# Altium integrated library NSC Switcher.IntLib: 2027 symbols (part 52 of 54)
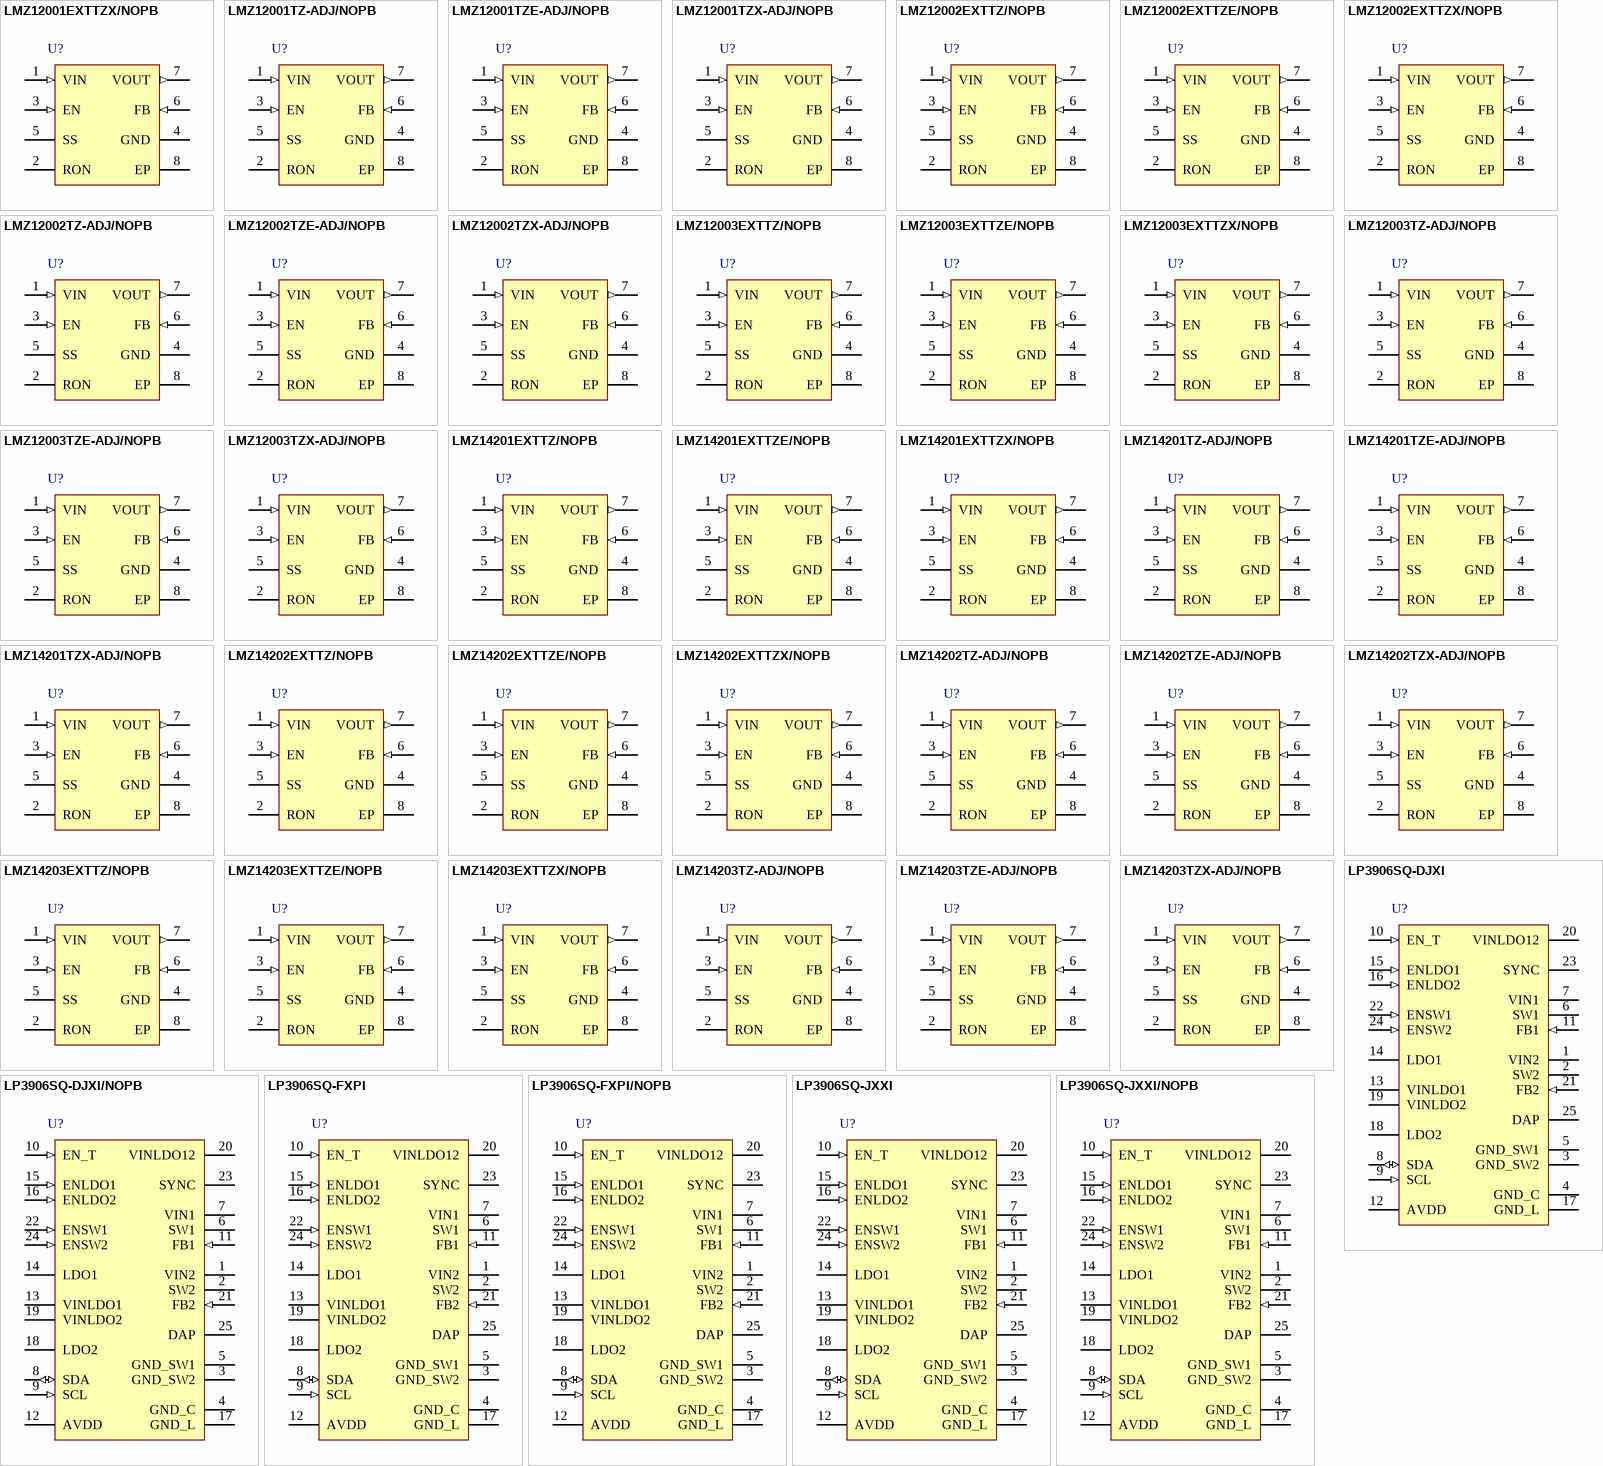
[diagram p114: symbols LMZ12001EXTTZX/NOPB to LP3906SQ-JXXI/NOPB]

## LP3906SQ-DJXI/NOPB
designator U?
Dual High-Current Step-Down DC/DC and Dual Linear Regulator with I2C Compatible Interface, 24-pin LLP, Pb-Free; PartNumber: LP3906SQ-DJXI/NOPB; Manufacturer: National Semiconductor; PackageTopMarking: NS*UZXYTT*06-DJXI; PowerWise: Y; CompType: Switcher; Published: 1-Mar-2010; DatasheetVersion: Aug-2010; PackageVersion: revA, Oct-2003; PackageReference: SQA24B; Publisher: Altium Limited; PackageDescription: LLP, Plastic, Quad, 5 x 4 x 0.8mm Body, 24 Lead, 0.5mm Pitch, No Pullback; Supplier 1: Digi-Key; Supplier Part Number 1: LP3906SQ-DJXITR-ND; Supplier 2: Digi-Key; Supplier Part Number 2: LP3906SQ-DJXICT-ND; Supplier 3: Digi-Key; Supplier Part Number 3: LP3906SQ-DJXIDKR-ND; RoHS: Y; PinCount: 24; Code_JEDEC: MO-220-WGHD-1; ComponentLink1Description: LP3906 Datasheet; ComponentLink1URL: http://www.national.com/ds/LP/LP3906.pdf; ComponentLink2Description: LP3906 Web Page; ComponentLink2URL: http://www.national.com/pf/LP/LP3906.html; ComponentLink3Description: SQA24B Package Page; ComponentLink3URL: http://www.national.com/packaging/folders/sqa24b.html
footprint SQA24B (QFN, 24-Leads, Body 5x4mm, Pitch 0.5mm, NSC Recommended)
pins: 1 VIN2 (power), 2 SW2 (power), 3 GND_SW2 (power), 4 GND_C (power), 5 GND_SW1 (power), 6 SW1 (power), 7 VIN1 (power), 8 SDA (io), 9 SCL (in), 10 EN_T (in), 11 FB1 (in), 12 AVDD (power), 13 VINLDO1 (power), 14 LDO1 (power), 15 ENLDO1 (in), 16 ENLDO2 (in), 17 GND_L (power), 18 LDO2 (power), 19 VINLDO2 (power), 20 VINLDO12 (power), 21 FB2 (in), 22 ENSW1 (in), 23 SYNC, 24 ENSW2 (in), 25 DAP (power)

## LP3906SQ-FXPI
designator U?
Dual High-Current Step-Down DC/DC and Dual Linear Regulator with I2C Compatible Interface, 24-pin LLP; PartNumber: LP3906SQ-FXPI; Manufacturer: National Semiconductor; PackageTopMarking: NS*UZXYTT*06-FXPI; PowerWise: N; CompType: Switcher; Published: 9-Oct-2009; DatasheetVersion: Aug-2010; PackageVersion: revA, Oct-2003; PackageReference: SQA24B; Publisher: Altium Limited; PackageDescription: LLP, Plastic, Quad, 5 x 4 x 0.8mm Body, 24 Lead, 0.5mm Pitch, No Pullback; RoHS: Y; PinCount: 24; Code_JEDEC: MO-220-WGHD-1; ComponentLink1Description: LP3906 Datasheet; ComponentLink1URL: http://www.national.com/ds/LP/LP3906.pdf; ComponentLink2Description: LP3906 Web Page; ComponentLink2URL: http://www.national.com/pf/LP/LP3906.html; ComponentLink3Description: SQA24B Package Page; ComponentLink3URL: http://www.national.com/packaging/folders/sqa24b.html
footprint SQA24B (QFN, 24-Leads, Body 5x4mm, Pitch 0.5mm, NSC Recommended)
pins: 1 VIN2 (power), 2 SW2 (power), 3 GND_SW2 (power), 4 GND_C (power), 5 GND_SW1 (power), 6 SW1 (power), 7 VIN1 (power), 8 SDA (io), 9 SCL (in), 10 EN_T (in), 11 FB1 (in), 12 AVDD (power), 13 VINLDO1 (power), 14 LDO1 (power), 15 ENLDO1 (in), 16 ENLDO2 (in), 17 GND_L (power), 18 LDO2 (power), 19 VINLDO2 (power), 20 VINLDO12 (power), 21 FB2 (in), 22 ENSW1 (in), 23 SYNC, 24 ENSW2 (in), 25 DAP (power)

## LP3906SQ-FXPI/NOPB
designator U?
Dual High-Current Step-Down DC/DC and Dual Linear Regulator with I2C Compatible Interface, 24-pin LLP, Pb-Free; PartNumber: LP3906SQ-FXPI/NOPB; Manufacturer: National Semiconductor; PackageTopMarking: NS*UZXYTT*06-FXPI; PowerWise: N; CompType: Switcher; Published: 1-Mar-2010; DatasheetVersion: Aug-2010; PackageVersion: revA, Oct-2003; PackageReference: SQA24B; Publisher: Altium Limited; PackageDescription: LLP, Plastic, Quad, 5 x 4 x 0.8mm Body, 24 Lead, 0.5mm Pitch, No Pullback; RoHS: Y; PinCount: 24; Code_JEDEC: MO-220-WGHD-1; ComponentLink1Description: LP3906 Datasheet; ComponentLink1URL: http://www.national.com/ds/LP/LP3906.pdf; ComponentLink2Description: LP3906 Web Page; ComponentLink2URL: http://www.national.com/pf/LP/LP3906.html; ComponentLink3Description: SQA24B Package Page; ComponentLink3URL: http://www.national.com/packaging/folders/sqa24b.html
footprint SQA24B (QFN, 24-Leads, Body 5x4mm, Pitch 0.5mm, NSC Recommended)
pins: 1 VIN2 (power), 2 SW2 (power), 3 GND_SW2 (power), 4 GND_C (power), 5 GND_SW1 (power), 6 SW1 (power), 7 VIN1 (power), 8 SDA (io), 9 SCL (in), 10 EN_T (in), 11 FB1 (in), 12 AVDD (power), 13 VINLDO1 (power), 14 LDO1 (power), 15 ENLDO1 (in), 16 ENLDO2 (in), 17 GND_L (power), 18 LDO2 (power), 19 VINLDO2 (power), 20 VINLDO12 (power), 21 FB2 (in), 22 ENSW1 (in), 23 SYNC, 24 ENSW2 (in), 25 DAP (power)

## LP3906SQ-JXXI
designator U?
Dual High-Current Step-Down DC/DC and Dual Linear Regulator with I2C Compatible Interface, 24-pin LLP; PartNumber: LP3906SQ-JXXI; Manufacturer: National Semiconductor; PackageTopMarking: NS*UZXYTT*06-JXXI; PowerWise: Y; CompType: Switcher; Published: 4-Dec-2008; DatasheetVersion: Aug-2010; PackageVersion: revA, Oct-2003; PackageReference: SQA24B; Publisher: Altium Limited; PackageDescription: LLP, Plastic, Quad, 5 x 4 x 0.8mm Body, 24 Lead, 0.5mm Pitch, No Pullback; RoHS: Y; PinCount: 24; Code_JEDEC: MO-220-WGHD-1; ComponentLink1Description: LP3906 Datasheet; ComponentLink1URL: http://www.national.com/ds/LP/LP3906.pdf; ComponentLink2Description: LP3906 Web Page; ComponentLink2URL: http://www.national.com/pf/LP/LP3906.html; ComponentLink3Description: SQA24B Package Page; ComponentLink3URL: http://www.national.com/packaging/folders/sqa24b.html
footprint SQA24B (QFN, 24-Leads, Body 5x4mm, Pitch 0.5mm, NSC Recommended)
pins: 1 VIN2 (power), 2 SW2 (power), 3 GND_SW2 (power), 4 GND_C (power), 5 GND_SW1 (power), 6 SW1 (power), 7 VIN1 (power), 8 SDA (io), 9 SCL (in), 10 EN_T (in), 11 FB1 (in), 12 AVDD (power), 13 VINLDO1 (power), 14 LDO1 (power), 15 ENLDO1 (in), 16 ENLDO2 (in), 17 GND_L (power), 18 LDO2 (power), 19 VINLDO2 (power), 20 VINLDO12 (power), 21 FB2 (in), 22 ENSW1 (in), 23 SYNC, 24 ENSW2 (in), 25 DAP (power)

## LP3906SQ-JXXI/NOPB
designator U?
Dual High-Current Step-Down DC/DC and Dual Linear Regulator with I2C Compatible Interface, 24-pin LLP, Pb-Free; PartNumber: LP3906SQ-JXXI/NOPB; Manufacturer: National Semiconductor; PackageTopMarking: NS*UZXYTT*06-JXXI; PowerWise: Y; CompType: Switcher; Published: 1-Mar-2010; DatasheetVersion: Aug-2010; PackageVersion: revA, Oct-2003; PackageReference: SQA24B; Publisher: Altium Limited; PackageDescription: LLP, Plastic, Quad, 5 x 4 x 0.8mm Body, 24 Lead, 0.5mm Pitch, No Pullback; Supplier 1: Digi-Key; Supplier Part Number 1: LP3906SQ-JXXITR-ND; Supplier 2: Digi-Key; Supplier Part Number 2: LP3906SQ-JXXICT-ND; Supplier 3: Digi-Key; Supplier Part Number 3: LP3906SQ-JXXIDKR-ND; RoHS: Y; PinCount: 24; Code_JEDEC: MO-220-WGHD-1; ComponentLink1Description: LP3906 Datasheet; ComponentLink1URL: http://www.national.com/ds/LP/LP3906.pdf; ComponentLink2Description: LP3906 Web Page; ComponentLink2URL: http://www.national.com/pf/LP/LP3906.html; ComponentLink3Description: SQA24B Package Page; ComponentLink3URL: http://www.national.com/packaging/folders/sqa24b.html
footprint SQA24B (QFN, 24-Leads, Body 5x4mm, Pitch 0.5mm, NSC Recommended)
pins: 1 VIN2 (power), 2 SW2 (power), 3 GND_SW2 (power), 4 GND_C (power), 5 GND_SW1 (power), 6 SW1 (power), 7 VIN1 (power), 8 SDA (io), 9 SCL (in), 10 EN_T (in), 11 FB1 (in), 12 AVDD (power), 13 VINLDO1 (power), 14 LDO1 (power), 15 ENLDO1 (in), 16 ENLDO2 (in), 17 GND_L (power), 18 LDO2 (power), 19 VINLDO2 (power), 20 VINLDO12 (power), 21 FB2 (in), 22 ENSW1 (in), 23 SYNC, 24 ENSW2 (in), 25 DAP (power)

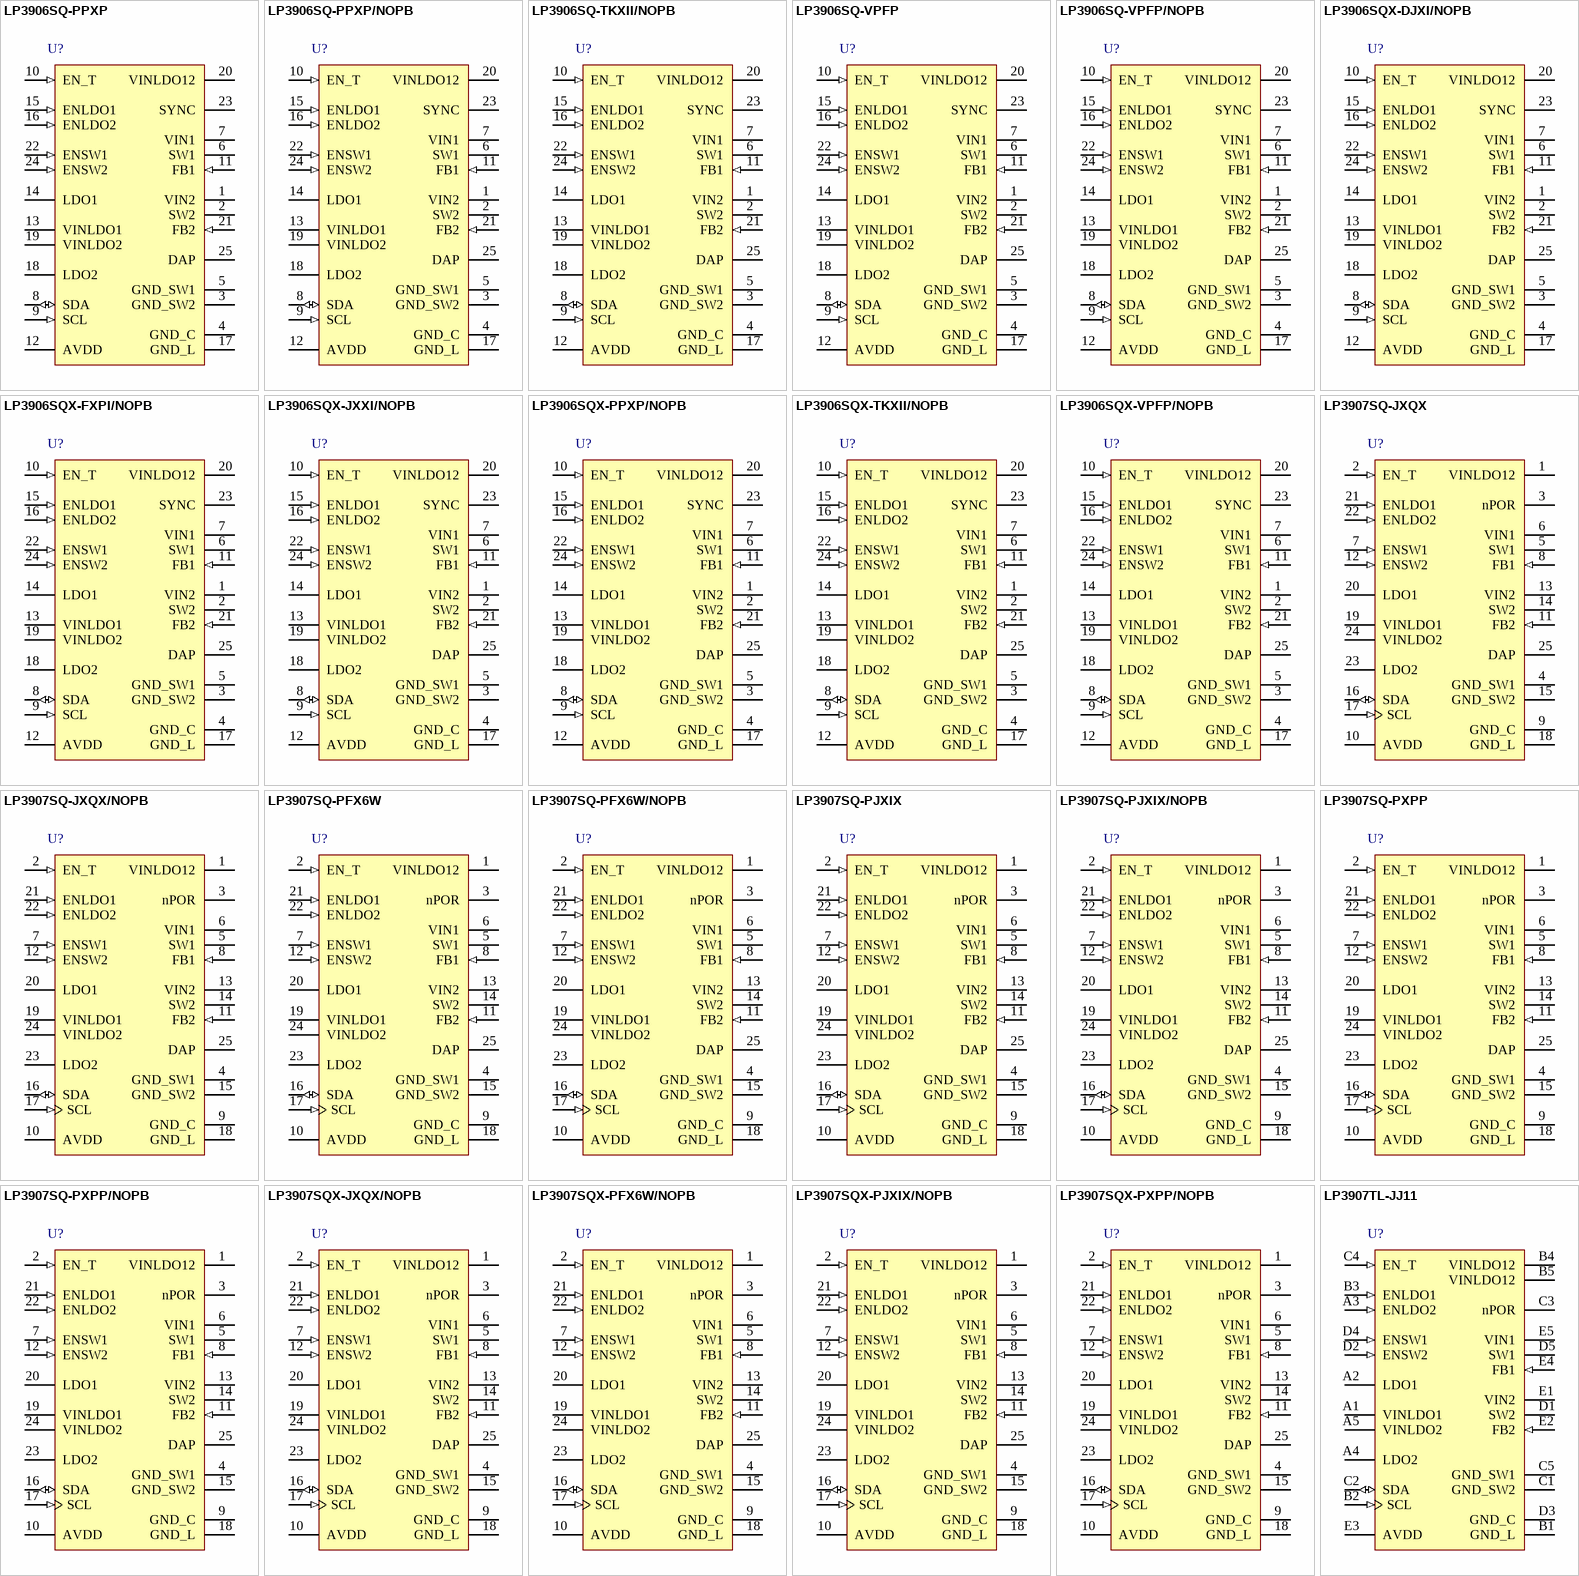
[diagram p59: symbols LP3906SQ-PPXP to LP3907TL-JJ11]

## LP3906SQ-PPXP
designator U?
Dual High-Current Step-Down DC/DC and Dual Linear Regulator with I2C Compatible Interface, 24-pin LLP; PartNumber: LP3906SQ-PPXP; Manufacturer: National Semiconductor; PackageTopMarking: NS*UZXYTT*06-PPXP; PowerWise: Y; CompType: Switcher; Published: 4-Dec-2008; DatasheetVersion: Aug-2010; PackageVersion: revA, Oct-2003; PackageReference: SQA24B; Publisher: Altium Limited; PackageDescription: LLP, Plastic, Quad, 5 x 4 x 0.8mm Body, 24 Lead, 0.5mm Pitch, No Pullback; RoHS: Y; PinCount: 24; Code_JEDEC: MO-220-WGHD-1; ComponentLink1Description: LP3906 Datasheet; ComponentLink1URL: http://www.national.com/ds/LP/LP3906.pdf; ComponentLink2Description: LP3906 Web Page; ComponentLink2URL: http://www.national.com/pf/LP/LP3906.html; ComponentLink3Description: SQA24B Package Page; ComponentLink3URL: http://www.national.com/packaging/folders/sqa24b.html
footprint SQA24B (QFN, 24-Leads, Body 5x4mm, Pitch 0.5mm, NSC Recommended)
pins: 1 VIN2 (power), 2 SW2 (power), 3 GND_SW2 (power), 4 GND_C (power), 5 GND_SW1 (power), 6 SW1 (power), 7 VIN1 (power), 8 SDA (io), 9 SCL (in), 10 EN_T (in), 11 FB1 (in), 12 AVDD (power), 13 VINLDO1 (power), 14 LDO1 (power), 15 ENLDO1 (in), 16 ENLDO2 (in), 17 GND_L (power), 18 LDO2 (power), 19 VINLDO2 (power), 20 VINLDO12 (power), 21 FB2 (in), 22 ENSW1 (in), 23 SYNC, 24 ENSW2 (in), 25 DAP (power)

## LP3906SQ-PPXP/NOPB
designator U?
Dual High-Current Step-Down DC/DC and Dual Linear Regulator with I2C Compatible Interface, 24-pin LLP, Pb-Free; PartNumber: LP3906SQ-PPXP/NOPB; Manufacturer: National Semiconductor; PackageTopMarking: NS*UZXYTT*06-PPXP; PowerWise: Y; CompType: Switcher; Published: 1-Mar-2010; DatasheetVersion: Aug-2010; PackageVersion: revA, Oct-2003; PackageReference: SQA24B; Publisher: Altium Limited; PackageDescription: LLP, Plastic, Quad, 5 x 4 x 0.8mm Body, 24 Lead, 0.5mm Pitch, No Pullback; Supplier 1: Digi-Key; Supplier Part Number 1: LP3906SQ-PPXPTR-ND; Supplier 2: Digi-Key; Supplier Part Number 2: LP3906SQ-PPXPCT-ND; Supplier 3: Digi-Key; Supplier Part Number 3: LP3906SQ-PPXPDKR-ND; RoHS: Y; PinCount: 24; Code_JEDEC: MO-220-WGHD-1; ComponentLink1Description: LP3906 Datasheet; ComponentLink1URL: http://www.national.com/ds/LP/LP3906.pdf; ComponentLink2Description: LP3906 Web Page; ComponentLink2URL: http://www.national.com/pf/LP/LP3906.html; ComponentLink3Description: SQA24B Package Page; ComponentLink3URL: http://www.national.com/packaging/folders/sqa24b.html
footprint SQA24B (QFN, 24-Leads, Body 5x4mm, Pitch 0.5mm, NSC Recommended)
pins: 1 VIN2 (power), 2 SW2 (power), 3 GND_SW2 (power), 4 GND_C (power), 5 GND_SW1 (power), 6 SW1 (power), 7 VIN1 (power), 8 SDA (io), 9 SCL (in), 10 EN_T (in), 11 FB1 (in), 12 AVDD (power), 13 VINLDO1 (power), 14 LDO1 (power), 15 ENLDO1 (in), 16 ENLDO2 (in), 17 GND_L (power), 18 LDO2 (power), 19 VINLDO2 (power), 20 VINLDO12 (power), 21 FB2 (in), 22 ENSW1 (in), 23 SYNC, 24 ENSW2 (in), 25 DAP (power)

## LP3906SQ-TKXII/NOPB
designator U?
Dual High-Current Step-Down DC/DC and Dual Linear Regulator with I2C Compatible Interface, 24 pin LLP; PartNumber: LP3906SQ-TKXII/NOPB; Manufacturer: National Semiconductor; PackageTopMarking: NS*UZXYTT*06TKXII; PowerWise: N; CompType: Switcher; Published: 16-Nov-2010; DatasheetVersion: Aug-2010; PackageVersion: revA, Oct-2003; PackageReference: SQA24B; Publisher: Altium Limited; PackageDescription: LLP, Plastic, Quad, 5 x 4 x 0.8mm Body, 24 Lead, 0.5mm Pitch, No Pullback; RoHS: Y; PinCount: 24; Code_JEDEC: MO-220-WGHD-1; ComponentLink1Description: LP3906 Datasheet; ComponentLink1URL: http://www.national.com/ds/LP/LP3906.pdf; ComponentLink2Description: LP3906 Web Page; ComponentLink2URL: http://www.national.com/pf/LP/LP3906.html; ComponentLink3Description: SQA24B Package Page; ComponentLink3URL: http://www.national.com/packaging/folders/sqa24b.html
footprint SQA24B (QFN, 24-Leads, Body 5x4mm, Pitch 0.5mm, NSC Recommended)
pins: 1 VIN2 (power), 2 SW2 (power), 3 GND_SW2 (power), 4 GND_C (power), 5 GND_SW1 (power), 6 SW1 (power), 7 VIN1 (power), 8 SDA (io), 9 SCL (in), 10 EN_T (in), 11 FB1 (in), 12 AVDD (power), 13 VINLDO1 (power), 14 LDO1 (power), 15 ENLDO1 (in), 16 ENLDO2 (in), 17 GND_L (power), 18 LDO2 (power), 19 VINLDO2 (power), 20 VINLDO12 (power), 21 FB2 (in), 22 ENSW1 (in), 23 SYNC, 24 ENSW2 (in), 25 DAP (power)

## LP3906SQ-VPFP
designator U?
Dual High-Current Step-Down DC/DC and Dual Linear Regulator with I2C Compatible Interface, 24-pin LLP; PartNumber: LP3906SQ-VPFP; Manufacturer: National Semiconductor; PackageTopMarking: NS*UZXYTT*06-VPFP; PowerWise: Y; CompType: Switcher; Published: 4-Dec-2008; DatasheetVersion: Aug-2010; PackageVersion: revA, Oct-2003; PackageReference: SQA24B; Publisher: Altium Limited; PackageDescription: LLP, Plastic, Quad, 5 x 4 x 0.8mm Body, 24 Lead, 0.5mm Pitch, No Pullback; RoHS: Y; PinCount: 24; Code_JEDEC: MO-220-WGHD-1; ComponentLink1Description: LP3906 Datasheet; ComponentLink1URL: http://www.national.com/ds/LP/LP3906.pdf; ComponentLink2Description: LP3906 Web Page; ComponentLink2URL: http://www.national.com/pf/LP/LP3906.html; ComponentLink3Description: SQA24B Package Page; ComponentLink3URL: http://www.national.com/packaging/folders/sqa24b.html
footprint SQA24B (QFN, 24-Leads, Body 5x4mm, Pitch 0.5mm, NSC Recommended)
pins: 1 VIN2 (power), 2 SW2 (power), 3 GND_SW2 (power), 4 GND_C (power), 5 GND_SW1 (power), 6 SW1 (power), 7 VIN1 (power), 8 SDA (io), 9 SCL (in), 10 EN_T (in), 11 FB1 (in), 12 AVDD (power), 13 VINLDO1 (power), 14 LDO1 (power), 15 ENLDO1 (in), 16 ENLDO2 (in), 17 GND_L (power), 18 LDO2 (power), 19 VINLDO2 (power), 20 VINLDO12 (power), 21 FB2 (in), 22 ENSW1 (in), 23 SYNC, 24 ENSW2 (in), 25 DAP (power)

## LP3906SQ-VPFP/NOPB
designator U?
Dual High-Current Step-Down DC/DC and Dual Linear Regulator with I2C Compatible Interface, 24-pin LLP, Pb-Free; PartNumber: LP3906SQ-VPFP/NOPB; Manufacturer: National Semiconductor; PackageTopMarking: NS*UZXYTT*06-VPFP; PowerWise: Y; CompType: Switcher; Published: 1-Mar-2010; DatasheetVersion: Aug-2010; PackageVersion: revA, Oct-2003; PackageReference: SQA24B; Publisher: Altium Limited; PackageDescription: LLP, Plastic, Quad, 5 x 4 x 0.8mm Body, 24 Lead, 0.5mm Pitch, No Pullback; Supplier 1: Digi-Key; Supplier Part Number 1: LP3906SQ-VPFPTR-ND; Supplier 2: Digi-Key; Supplier Part Number 2: LP3906SQ-VPFPCT-ND; RoHS: Y; PinCount: 24; Code_JEDEC: MO-220-WGHD-1; ComponentLink1Description: LP3906 Datasheet; ComponentLink1URL: http://www.national.com/ds/LP/LP3906.pdf; ComponentLink2Description: LP3906 Web Page; ComponentLink2URL: http://www.national.com/pf/LP/LP3906.html; ComponentLink3Description: SQA24B Package Page; ComponentLink3URL: http://www.national.com/packaging/folders/sqa24b.html
footprint SQA24B (QFN, 24-Leads, Body 5x4mm, Pitch 0.5mm, NSC Recommended)
pins: 1 VIN2 (power), 2 SW2 (power), 3 GND_SW2 (power), 4 GND_C (power), 5 GND_SW1 (power), 6 SW1 (power), 7 VIN1 (power), 8 SDA (io), 9 SCL (in), 10 EN_T (in), 11 FB1 (in), 12 AVDD (power), 13 VINLDO1 (power), 14 LDO1 (power), 15 ENLDO1 (in), 16 ENLDO2 (in), 17 GND_L (power), 18 LDO2 (power), 19 VINLDO2 (power), 20 VINLDO12 (power), 21 FB2 (in), 22 ENSW1 (in), 23 SYNC, 24 ENSW2 (in), 25 DAP (power)

## LP3906SQX-DJXI/NOPB
designator U?
Dual High-Current Step-Down DC/DC and Dual Linear Regulator with I2C Compatible Interface, 24-pin LLP, Pb-Free; PartNumber: LP3906SQX-DJXI/NOPB; Manufacturer: National Semiconductor; PackageTopMarking: NS*UZXYTT*06-DJXI; PowerWise: Y; CompType: Switcher; Published: 1-Mar-2010; DatasheetVersion: Aug-2010; PackageVersion: revA, Oct-2003; PackageReference: SQA24B; Publisher: Altium Limited; PackageDescription: LLP, Plastic, Quad, 5 x 4 x 0.8mm Body, 24 Lead, 0.5mm Pitch, No Pullback; Supplier 1: Digi-Key; Supplier Part Number 1: LP3906SQX-DJXI-ND; RoHS: Y; PinCount: 24; Code_JEDEC: MO-220-WGHD-1; ComponentLink1Description: LP3906 Datasheet; ComponentLink1URL: http://www.national.com/ds/LP/LP3906.pdf; ComponentLink2Description: LP3906 Web Page; ComponentLink2URL: http://www.national.com/pf/LP/LP3906.html; ComponentLink3Description: SQA24B Package Page; ComponentLink3URL: http://www.national.com/packaging/folders/sqa24b.html
footprint SQA24B (QFN, 24-Leads, Body 5x4mm, Pitch 0.5mm, NSC Recommended)
pins: 1 VIN2 (power), 2 SW2 (power), 3 GND_SW2 (power), 4 GND_C (power), 5 GND_SW1 (power), 6 SW1 (power), 7 VIN1 (power), 8 SDA (io), 9 SCL (in), 10 EN_T (in), 11 FB1 (in), 12 AVDD (power), 13 VINLDO1 (power), 14 LDO1 (power), 15 ENLDO1 (in), 16 ENLDO2 (in), 17 GND_L (power), 18 LDO2 (power), 19 VINLDO2 (power), 20 VINLDO12 (power), 21 FB2 (in), 22 ENSW1 (in), 23 SYNC, 24 ENSW2 (in), 25 DAP (power)

## LP3906SQX-FXPI/NOPB
designator U?
Dual High-Current Step-Down DC/DC and Dual Linear Regulator with I2C Compatible Interface, 24-pin LLP, Pb-Free; PartNumber: LP3906SQX-FXPI/NOPB; Manufacturer: National Semiconductor; PackageTopMarking: NS*UZXYTT*06-FXPI; PowerWise: N; CompType: Switcher; Published: 1-Mar-2010; DatasheetVersion: Aug-2010; PackageVersion: revA, Oct-2003; PackageReference: SQA24B; Publisher: Altium Limited; PackageDescription: LLP, Plastic, Quad, 5 x 4 x 0.8mm Body, 24 Lead, 0.5mm Pitch, No Pullback; RoHS: Y; PinCount: 24; Code_JEDEC: MO-220-WGHD-1; ComponentLink1Description: LP3906 Datasheet; ComponentLink1URL: http://www.national.com/ds/LP/LP3906.pdf; ComponentLink2Description: LP3906 Web Page; ComponentLink2URL: http://www.national.com/pf/LP/LP3906.html; ComponentLink3Description: SQA24B Package Page; ComponentLink3URL: http://www.national.com/packaging/folders/sqa24b.html
footprint SQA24B (QFN, 24-Leads, Body 5x4mm, Pitch 0.5mm, NSC Recommended)
pins: 1 VIN2 (power), 2 SW2 (power), 3 GND_SW2 (power), 4 GND_C (power), 5 GND_SW1 (power), 6 SW1 (power), 7 VIN1 (power), 8 SDA (io), 9 SCL (in), 10 EN_T (in), 11 FB1 (in), 12 AVDD (power), 13 VINLDO1 (power), 14 LDO1 (power), 15 ENLDO1 (in), 16 ENLDO2 (in), 17 GND_L (power), 18 LDO2 (power), 19 VINLDO2 (power), 20 VINLDO12 (power), 21 FB2 (in), 22 ENSW1 (in), 23 SYNC, 24 ENSW2 (in), 25 DAP (power)

## LP3906SQX-JXXI/NOPB
designator U?
Dual High-Current Step-Down DC/DC and Dual Linear Regulator with I2C Compatible Interface, 24-pin LLP, Pb-Free; PartNumber: LP3906SQX-JXXI/NOPB; Manufacturer: National Semiconductor; PackageTopMarking: NS*UZXYTT*06-JXXI; PowerWise: Y; CompType: Switcher; Published: 1-Mar-2010; DatasheetVersion: Aug-2010; PackageVersion: revA, Oct-2003; PackageReference: SQA24B; Publisher: Altium Limited; PackageDescription: LLP, Plastic, Quad, 5 x 4 x 0.8mm Body, 24 Lead, 0.5mm Pitch, No Pullback; Supplier 1: Digi-Key; Supplier Part Number 1: LP3906SQX-JXXI-ND; RoHS: Y; PinCount: 24; Code_JEDEC: MO-220-WGHD-1; ComponentLink1Description: LP3906 Datasheet; ComponentLink1URL: http://www.national.com/ds/LP/LP3906.pdf; ComponentLink2Description: LP3906 Web Page; ComponentLink2URL: http://www.national.com/pf/LP/LP3906.html; ComponentLink3Description: SQA24B Package Page; ComponentLink3URL: http://www.national.com/packaging/folders/sqa24b.html
footprint SQA24B (QFN, 24-Leads, Body 5x4mm, Pitch 0.5mm, NSC Recommended)
pins: 1 VIN2 (power), 2 SW2 (power), 3 GND_SW2 (power), 4 GND_C (power), 5 GND_SW1 (power), 6 SW1 (power), 7 VIN1 (power), 8 SDA (io), 9 SCL (in), 10 EN_T (in), 11 FB1 (in), 12 AVDD (power), 13 VINLDO1 (power), 14 LDO1 (power), 15 ENLDO1 (in), 16 ENLDO2 (in), 17 GND_L (power), 18 LDO2 (power), 19 VINLDO2 (power), 20 VINLDO12 (power), 21 FB2 (in), 22 ENSW1 (in), 23 SYNC, 24 ENSW2 (in), 25 DAP (power)

## LP3906SQX-PPXP/NOPB
designator U?
Dual High-Current Step-Down DC/DC and Dual Linear Regulator with I2C Compatible Interface, 24-pin LLP, Pb-Free; PartNumber: LP3906SQX-PPXP/NOPB; Manufacturer: National Semiconductor; PackageTopMarking: NS*UZXYTT*06-PPXP; PowerWise: Y; CompType: Switcher; Published: 1-Mar-2010; DatasheetVersion: Aug-2010; PackageVersion: revA, Oct-2003; PackageReference: SQA24B; Publisher: Altium Limited; PackageDescription: LLP, Plastic, Quad, 5 x 4 x 0.8mm Body, 24 Lead, 0.5mm Pitch, No Pullback; Supplier 1: Digi-Key; Supplier Part Number 1: LP3906SQX-PPXP-ND; RoHS: Y; PinCount: 24; Code_JEDEC: MO-220-WGHD-1; ComponentLink1Description: LP3906 Datasheet; ComponentLink1URL: http://www.national.com/ds/LP/LP3906.pdf; ComponentLink2Description: LP3906 Web Page; ComponentLink2URL: http://www.national.com/pf/LP/LP3906.html; ComponentLink3Description: SQA24B Package Page; ComponentLink3URL: http://www.national.com/packaging/folders/sqa24b.html
footprint SQA24B (QFN, 24-Leads, Body 5x4mm, Pitch 0.5mm, NSC Recommended)
pins: 1 VIN2 (power), 2 SW2 (power), 3 GND_SW2 (power), 4 GND_C (power), 5 GND_SW1 (power), 6 SW1 (power), 7 VIN1 (power), 8 SDA (io), 9 SCL (in), 10 EN_T (in), 11 FB1 (in), 12 AVDD (power), 13 VINLDO1 (power), 14 LDO1 (power), 15 ENLDO1 (in), 16 ENLDO2 (in), 17 GND_L (power), 18 LDO2 (power), 19 VINLDO2 (power), 20 VINLDO12 (power), 21 FB2 (in), 22 ENSW1 (in), 23 SYNC, 24 ENSW2 (in), 25 DAP (power)

## LP3906SQX-TKXII/NOPB
designator U?
Dual High-Current Step-Down DC/DC and Dual Linear Regulator with I2C Compatible Interface, 24 pin LLP; PartNumber: LP3906SQX-TKXII/NOPB; Manufacturer: National Semiconductor; PackageTopMarking: NS*UZXYTT*06TKXII; PowerWise: N; CompType: Switcher; Published: 16-Nov-2010; DatasheetVersion: Aug-2010; PackageVersion: revA, Oct-2003; PackageReference: SQA24B; Publisher: Altium Limited; PackageDescription: LLP, Plastic, Quad, 5 x 4 x 0.8mm Body, 24 Lead, 0.5mm Pitch, No Pullback; RoHS: Y; PinCount: 24; Code_JEDEC: MO-220-WGHD-1; ComponentLink1Description: LP3906 Datasheet; ComponentLink1URL: http://www.national.com/ds/LP/LP3906.pdf; ComponentLink2Description: LP3906 Web Page; ComponentLink2URL: http://www.national.com/pf/LP/LP3906.html; ComponentLink3Description: SQA24B Package Page; ComponentLink3URL: http://www.national.com/packaging/folders/sqa24b.html
footprint SQA24B (QFN, 24-Leads, Body 5x4mm, Pitch 0.5mm, NSC Recommended)
pins: 1 VIN2 (power), 2 SW2 (power), 3 GND_SW2 (power), 4 GND_C (power), 5 GND_SW1 (power), 6 SW1 (power), 7 VIN1 (power), 8 SDA (io), 9 SCL (in), 10 EN_T (in), 11 FB1 (in), 12 AVDD (power), 13 VINLDO1 (power), 14 LDO1 (power), 15 ENLDO1 (in), 16 ENLDO2 (in), 17 GND_L (power), 18 LDO2 (power), 19 VINLDO2 (power), 20 VINLDO12 (power), 21 FB2 (in), 22 ENSW1 (in), 23 SYNC, 24 ENSW2 (in), 25 DAP (power)

## LP3906SQX-VPFP/NOPB
designator U?
Dual High-Current Step-Down DC/DC and Dual Linear Regulator with I2C Compatible Interface, 24-pin LLP, Pb-Free; PartNumber: LP3906SQX-VPFP/NOPB; Manufacturer: National Semiconductor; PackageTopMarking: NS*UZXYTT*06-VPFP; PowerWise: Y; CompType: Switcher; Published: 1-Mar-2010; DatasheetVersion: Aug-2010; PackageVersion: revA, Oct-2003; PackageReference: SQA24B; Publisher: Altium Limited; PackageDescription: LLP, Plastic, Quad, 5 x 4 x 0.8mm Body, 24 Lead, 0.5mm Pitch, No Pullback; Supplier 1: Digi-Key; Supplier Part Number 1: LP3906SQX-VPFP-ND; RoHS: Y; PinCount: 24; Code_JEDEC: MO-220-WGHD-1; ComponentLink1Description: LP3906 Datasheet; ComponentLink1URL: http://www.national.com/ds/LP/LP3906.pdf; ComponentLink2Description: LP3906 Web Page; ComponentLink2URL: http://www.national.com/pf/LP/LP3906.html; ComponentLink3Description: SQA24B Package Page; ComponentLink3URL: http://www.national.com/packaging/folders/sqa24b.html
footprint SQA24B (QFN, 24-Leads, Body 5x4mm, Pitch 0.5mm, NSC Recommended)
pins: 1 VIN2 (power), 2 SW2 (power), 3 GND_SW2 (power), 4 GND_C (power), 5 GND_SW1 (power), 6 SW1 (power), 7 VIN1 (power), 8 SDA (io), 9 SCL (in), 10 EN_T (in), 11 FB1 (in), 12 AVDD (power), 13 VINLDO1 (power), 14 LDO1 (power), 15 ENLDO1 (in), 16 ENLDO2 (in), 17 GND_L (power), 18 LDO2 (power), 19 VINLDO2 (power), 20 VINLDO12 (power), 21 FB2 (in), 22 ENSW1 (in), 23 SYNC, 24 ENSW2 (in), 25 DAP (power)

## LP3907SQ-JXQX
designator U?
Dual High-Current Step-Down DC/DC and Dual Linear Regulator with I2C Compatible Interface, 24-pin LLP; PartNumber: LP3907SQ-JXQX; Manufacturer: National Semiconductor; PackageTopMarking: NS*UZXYTT*07-JXQX; PowerWise: Y; CompType: Switcher; Published: 4-Dec-2008; DatasheetVersion: Dec-2009; PackageVersion: revB, Aug-2003; PackageReference: SQA24A; Publisher: Altium Limited; PackageDescription: LLP, Plastic, Quad, 4 x 4 x 0.8mm Body, 24 Lead, 0.5mm Pitch, No Pullback; RoHS: Y; PinCount: 24; Code_JEDEC: MO-220-WGGD-6; ComponentLink1Description: LP3907 Datasheet; ComponentLink1URL: http://www.national.com/ds/LP/LP3907.pdf; ComponentLink2Description: LP3907 Web Page; ComponentLink2URL: http://www.national.com/pf/LP/LP3907.html; ComponentLink3Description: SQA24A Package Page; ComponentLink3URL: http://www.national.com/packaging/folders/sqa24a.html
footprint SQA24A (QFN, 24-Leads, Body 4x4mm, Pitch 0.5mm, NSC Recommended)
pins: 1 VINLDO12 (power), 2 EN_T (in), 3 nPOR (oc), 4 GND_SW1 (power), 5 SW1 (power), 6 VIN1 (power), 7 ENSW1 (in), 8 FB1 (in), 9 GND_C (power), 10 AVDD (power), 11 FB2 (in), 12 ENSW2 (in), 13 VIN2 (power), 14 SW2 (power), 15 GND_SW2 (power), 16 SDA (io), 17 SCL (in), 18 GND_L (power), 19 VINLDO1 (power), 20 LDO1 (power), 21 ENLDO1 (in), 22 ENLDO2 (in), 23 LDO2 (power), 24 VINLDO2 (power), 25 DAP (power)

## LP3907SQ-JXQX/NOPB
designator U?
Dual High-Current Step-Down DC/DC and Dual Linear Regulator with I2C Compatible Interface, 24-pin LLP, Pb-Free; PartNumber: LP3907SQ-JXQX/NOPB; Manufacturer: National Semiconductor; PackageTopMarking: NS*UZXYTT*07-JXQX; PowerWise: Y; CompType: Switcher; Published: 1-Mar-2010; DatasheetVersion: Dec-2009; PackageVersion: revB, Aug-2003; PackageReference: SQA24A; Publisher: Altium Limited; PackageDescription: LLP, Plastic, Quad, 4 x 4 x 0.8mm Body, 24 Lead, 0.5mm Pitch, No Pullback; Supplier 1: Digi-Key; Supplier Part Number 1: LP3907SQ-JXQXTR-ND; Supplier 2: Digi-Key; Supplier Part Number 2: LP3907SQ-JXQXCT-ND; Supplier 3: Digi-Key; Supplier Part Number 3: LP3907SQ-JXQXDKR-ND; RoHS: Y; PinCount: 24; Code_JEDEC: MO-220-WGGD-6; ComponentLink1Description: LP3907 Datasheet; ComponentLink1URL: http://www.national.com/ds/LP/LP3907.pdf; ComponentLink2Description: LP3907 Web Page; ComponentLink2URL: http://www.national.com/pf/LP/LP3907.html; ComponentLink3Description: SQA24A Package Page; ComponentLink3URL: http://www.national.com/packaging/folders/sqa24a.html
footprint SQA24A (QFN, 24-Leads, Body 4x4mm, Pitch 0.5mm, NSC Recommended)
pins: 1 VINLDO12 (power), 2 EN_T (in), 3 nPOR (oc), 4 GND_SW1 (power), 5 SW1 (power), 6 VIN1 (power), 7 ENSW1 (in), 8 FB1 (in), 9 GND_C (power), 10 AVDD (power), 11 FB2 (in), 12 ENSW2 (in), 13 VIN2 (power), 14 SW2 (power), 15 GND_SW2 (power), 16 SDA (io), 17 SCL (in), 18 GND_L (power), 19 VINLDO1 (power), 20 LDO1 (power), 21 ENLDO1 (in), 22 ENLDO2 (in), 23 LDO2 (power), 24 VINLDO2 (power), 25 DAP (power)

## LP3907SQ-PFX6W
designator U?
Dual High-Current Step-Down DC/DC and Dual Linear Regulator with I2C Compatible Interface, 24-pin LLP; PartNumber: LP3907SQ-PFX6W; Manufacturer: National Semiconductor; PackageTopMarking: NS*UZXYTT*7PFX6W; PowerWise: N; CompType: Switcher; Published: 9-Oct-2009; DatasheetVersion: Dec-2009; PackageVersion: revB, Aug-2003; PackageReference: SQA24A; Publisher: Altium Limited; PackageDescription: LLP, Plastic, Quad, 4 x 4 x 0.8mm Body, 24 Lead, 0.5mm Pitch, No Pullback; RoHS: Y; PinCount: 24; Code_JEDEC: MO-220-WGGD-6; ComponentLink1Description: LP3907 Datasheet; ComponentLink1URL: http://www.national.com/ds/LP/LP3907.pdf; ComponentLink2Description: LP3907 Web Page; ComponentLink2URL: http://www.national.com/pf/LP/LP3907.html; ComponentLink3Description: SQA24A Package Page; ComponentLink3URL: http://www.national.com/packaging/folders/sqa24a.html
footprint SQA24A (QFN, 24-Leads, Body 4x4mm, Pitch 0.5mm, NSC Recommended)
pins: 1 VINLDO12 (power), 2 EN_T (in), 3 nPOR (oc), 4 GND_SW1 (power), 5 SW1 (power), 6 VIN1 (power), 7 ENSW1 (in), 8 FB1 (in), 9 GND_C (power), 10 AVDD (power), 11 FB2 (in), 12 ENSW2 (in), 13 VIN2 (power), 14 SW2 (power), 15 GND_SW2 (power), 16 SDA (io), 17 SCL (in), 18 GND_L (power), 19 VINLDO1 (power), 20 LDO1 (power), 21 ENLDO1 (in), 22 ENLDO2 (in), 23 LDO2 (power), 24 VINLDO2 (power), 25 DAP (power)

## LP3907SQ-PFX6W/NOPB
designator U?
Dual High-Current Step-Down DC/DC and Dual Linear Regulator with I2C Compatible Interface, 24-pin LLP, Pb-Free; PartNumber: LP3907SQ-PFX6W/NOPB; Manufacturer: National Semiconductor; PackageTopMarking: NS*UZXYTT*7PFX6W; PowerWise: N; CompType: Switcher; Published: 1-Mar-2010; DatasheetVersion: Dec-2009; PackageVersion: revB, Aug-2003; PackageReference: SQA24A; Publisher: Altium Limited; PackageDescription: LLP, Plastic, Quad, 4 x 4 x 0.8mm Body, 24 Lead, 0.5mm Pitch, No Pullback; RoHS: Y; PinCount: 24; Code_JEDEC: MO-220-WGGD-6; ComponentLink1Description: LP3907 Datasheet; ComponentLink1URL: http://www.national.com/ds/LP/LP3907.pdf; ComponentLink2Description: LP3907 Web Page; ComponentLink2URL: http://www.national.com/pf/LP/LP3907.html; ComponentLink3Description: SQA24A Package Page; ComponentLink3URL: http://www.national.com/packaging/folders/sqa24a.html
footprint SQA24A (QFN, 24-Leads, Body 4x4mm, Pitch 0.5mm, NSC Recommended)
pins: 1 VINLDO12 (power), 2 EN_T (in), 3 nPOR (oc), 4 GND_SW1 (power), 5 SW1 (power), 6 VIN1 (power), 7 ENSW1 (in), 8 FB1 (in), 9 GND_C (power), 10 AVDD (power), 11 FB2 (in), 12 ENSW2 (in), 13 VIN2 (power), 14 SW2 (power), 15 GND_SW2 (power), 16 SDA (io), 17 SCL (in), 18 GND_L (power), 19 VINLDO1 (power), 20 LDO1 (power), 21 ENLDO1 (in), 22 ENLDO2 (in), 23 LDO2 (power), 24 VINLDO2 (power), 25 DAP (power)

## LP3907SQ-PJXIX
designator U?
Dual High-Current Step-Down DC/DC and Dual Linear Regulator with I2C Compatible Interface, 24-pin LLP; PartNumber: LP3907SQ-PJXIX; Manufacturer: National Semiconductor; PackageTopMarking: NS*UZXYTT*07PJXIX; PowerWise: N; CompType: Switcher; Published: 4-Dec-2008; DatasheetVersion: Dec-2009; PackageVersion: revB, Aug-2003; PackageReference: SQA24A; Publisher: Altium Limited; PackageDescription: LLP, Plastic, Quad, 4 x 4 x 0.8mm Body, 24 Lead, 0.5mm Pitch, No Pullback; RoHS: Y; PinCount: 24; Code_JEDEC: MO-220-WGGD-6; ComponentLink1Description: LP3907 Datasheet; ComponentLink1URL: http://www.national.com/ds/LP/LP3907.pdf; ComponentLink2Description: LP3907 Web Page; ComponentLink2URL: http://www.national.com/pf/LP/LP3907.html; ComponentLink3Description: SQA24A Package Page; ComponentLink3URL: http://www.national.com/packaging/folders/sqa24a.html
footprint SQA24A (QFN, 24-Leads, Body 4x4mm, Pitch 0.5mm, NSC Recommended)
pins: 1 VINLDO12 (power), 2 EN_T (in), 3 nPOR (oc), 4 GND_SW1 (power), 5 SW1 (power), 6 VIN1 (power), 7 ENSW1 (in), 8 FB1 (in), 9 GND_C (power), 10 AVDD (power), 11 FB2 (in), 12 ENSW2 (in), 13 VIN2 (power), 14 SW2 (power), 15 GND_SW2 (power), 16 SDA (io), 17 SCL (in), 18 GND_L (power), 19 VINLDO1 (power), 20 LDO1 (power), 21 ENLDO1 (in), 22 ENLDO2 (in), 23 LDO2 (power), 24 VINLDO2 (power), 25 DAP (power)

## LP3907SQ-PJXIX/NOPB
designator U?
Dual High-Current Step-Down DC/DC and Dual Linear Regulator with I2C Compatible Interface, 24-pin LLP, Pb-Free; PartNumber: LP3907SQ-PJXIX/NOPB; Manufacturer: National Semiconductor; PackageTopMarking: NS*UZXYTT*07PJXIX; PowerWise: N; CompType: Switcher; Published: 1-Mar-2010; DatasheetVersion: Dec-2009; PackageVersion: revB, Aug-2003; PackageReference: SQA24A; Publisher: Altium Limited; PackageDescription: LLP, Plastic, Quad, 4 x 4 x 0.8mm Body, 24 Lead, 0.5mm Pitch, No Pullback; Supplier 1: Digi-Key; Supplier Part Number 1: LP3907SQ-PJXIX-ND; RoHS: Y; PinCount: 24; Code_JEDEC: MO-220-WGGD-6; ComponentLink1Description: LP3907 Datasheet; ComponentLink1URL: http://www.national.com/ds/LP/LP3907.pdf; ComponentLink2Description: LP3907 Web Page; ComponentLink2URL: http://www.national.com/pf/LP/LP3907.html; ComponentLink3Description: SQA24A Package Page; ComponentLink3URL: http://www.national.com/packaging/folders/sqa24a.html
footprint SQA24A (QFN, 24-Leads, Body 4x4mm, Pitch 0.5mm, NSC Recommended)
pins: 1 VINLDO12 (power), 2 EN_T (in), 3 nPOR (oc), 4 GND_SW1 (power), 5 SW1 (power), 6 VIN1 (power), 7 ENSW1 (in), 8 FB1 (in), 9 GND_C (power), 10 AVDD (power), 11 FB2 (in), 12 ENSW2 (in), 13 VIN2 (power), 14 SW2 (power), 15 GND_SW2 (power), 16 SDA (io), 17 SCL (in), 18 GND_L (power), 19 VINLDO1 (power), 20 LDO1 (power), 21 ENLDO1 (in), 22 ENLDO2 (in), 23 LDO2 (power), 24 VINLDO2 (power), 25 DAP (power)

## LP3907SQ-PXPP
designator U?
Dual High-Current Step-Down DC/DC and Dual Linear Regulator with I2C Compatible Interface, 24-pin LLP; PartNumber: LP3907SQ-PXPP; Manufacturer: National Semiconductor; PackageTopMarking: NS*UZXYTT*07-PXPP; PowerWise: Y; CompType: Switcher; Published: 4-Dec-2008; DatasheetVersion: Dec-2009; PackageVersion: revB, Aug-2003; PackageReference: SQA24A; Publisher: Altium Limited; PackageDescription: LLP, Plastic, Quad, 4 x 4 x 0.8mm Body, 24 Lead, 0.5mm Pitch, No Pullback; RoHS: Y; PinCount: 24; Code_JEDEC: MO-220-WGGD-6; ComponentLink1Description: LP3907 Datasheet; ComponentLink1URL: http://www.national.com/ds/LP/LP3907.pdf; ComponentLink2Description: LP3907 Web Page; ComponentLink2URL: http://www.national.com/pf/LP/LP3907.html; ComponentLink3Description: SQA24A Package Page; ComponentLink3URL: http://www.national.com/packaging/folders/sqa24a.html
footprint SQA24A (QFN, 24-Leads, Body 4x4mm, Pitch 0.5mm, NSC Recommended)
pins: 1 VINLDO12 (power), 2 EN_T (in), 3 nPOR (oc), 4 GND_SW1 (power), 5 SW1 (power), 6 VIN1 (power), 7 ENSW1 (in), 8 FB1 (in), 9 GND_C (power), 10 AVDD (power), 11 FB2 (in), 12 ENSW2 (in), 13 VIN2 (power), 14 SW2 (power), 15 GND_SW2 (power), 16 SDA (io), 17 SCL (in), 18 GND_L (power), 19 VINLDO1 (power), 20 LDO1 (power), 21 ENLDO1 (in), 22 ENLDO2 (in), 23 LDO2 (power), 24 VINLDO2 (power), 25 DAP (power)

## LP3907SQ-PXPP/NOPB
designator U?
Dual High-Current Step-Down DC/DC and Dual Linear Regulator with I2C Compatible Interface, 24-pin LLP, Pb-Free; PartNumber: LP3907SQ-PXPP/NOPB; Manufacturer: National Semiconductor; PackageTopMarking: NS*UZXYTT*07-PXPP; PowerWise: Y; CompType: Switcher; Published: 1-Mar-2010; DatasheetVersion: Dec-2009; PackageVersion: revB, Aug-2003; PackageReference: SQA24A; Publisher: Altium Limited; PackageDescription: LLP, Plastic, Quad, 4 x 4 x 0.8mm Body, 24 Lead, 0.5mm Pitch, No Pullback; Supplier 1: Digi-Key; Supplier Part Number 1: LP3907SQ-PXPPTR-ND; Supplier 2: Digi-Key; Supplier Part Number 2: LP3907SQ-PXPPCT-ND; Supplier 3: Digi-Key; Supplier Part Number 3: LP3907SQ-PXPPDKR-ND; RoHS: Y; PinCount: 24; Code_JEDEC: MO-220-WGGD-6; ComponentLink1Description: LP3907 Datasheet; ComponentLink1URL: http://www.national.com/ds/LP/LP3907.pdf; ComponentLink2Description: LP3907 Web Page; ComponentLink2URL: http://www.national.com/pf/LP/LP3907.html; ComponentLink3Description: SQA24A Package Page; ComponentLink3URL: http://www.national.com/packaging/folders/sqa24a.html
footprint SQA24A (QFN, 24-Leads, Body 4x4mm, Pitch 0.5mm, NSC Recommended)
pins: 1 VINLDO12 (power), 2 EN_T (in), 3 nPOR (oc), 4 GND_SW1 (power), 5 SW1 (power), 6 VIN1 (power), 7 ENSW1 (in), 8 FB1 (in), 9 GND_C (power), 10 AVDD (power), 11 FB2 (in), 12 ENSW2 (in), 13 VIN2 (power), 14 SW2 (power), 15 GND_SW2 (power), 16 SDA (io), 17 SCL (in), 18 GND_L (power), 19 VINLDO1 (power), 20 LDO1 (power), 21 ENLDO1 (in), 22 ENLDO2 (in), 23 LDO2 (power), 24 VINLDO2 (power), 25 DAP (power)

## LP3907SQX-JXQX/NOPB
designator U?
Dual High-Current Step-Down DC/DC and Dual Linear Regulator with I2C Compatible Interface, 24-pin LLP, Pb-Free; PartNumber: LP3907SQX-JXQX/NOPB; Manufacturer: National Semiconductor; PackageTopMarking: NS*UZXYTT*07-JXQX; PowerWise: N; CompType: Switcher; Published: 1-Mar-2010; DatasheetVersion: Dec-2009; PackageVersion: revB, Aug-2003; PackageReference: SQA24A; Publisher: Altium Limited; PackageDescription: LLP, Plastic, Quad, 4 x 4 x 0.8mm Body, 24 Lead, 0.5mm Pitch, No Pullback; Supplier 1: Digi-Key; Supplier Part Number 1: LP3907SQX-JXQX-ND; RoHS: Y; PinCount: 24; Code_JEDEC: MO-220-WGGD-6; ComponentLink1Description: LP3907 Datasheet; ComponentLink1URL: http://www.national.com/ds/LP/LP3907.pdf; ComponentLink2Description: LP3907 Web Page; ComponentLink2URL: http://www.national.com/pf/LP/LP3907.html; ComponentLink3Description: SQA24A Package Page; ComponentLink3URL: http://www.national.com/packaging/folders/sqa24a.html
footprint SQA24A (QFN, 24-Leads, Body 4x4mm, Pitch 0.5mm, NSC Recommended)
pins: 1 VINLDO12 (power), 2 EN_T (in), 3 nPOR (oc), 4 GND_SW1 (power), 5 SW1 (power), 6 VIN1 (power), 7 ENSW1 (in), 8 FB1 (in), 9 GND_C (power), 10 AVDD (power), 11 FB2 (in), 12 ENSW2 (in), 13 VIN2 (power), 14 SW2 (power), 15 GND_SW2 (power), 16 SDA (io), 17 SCL (in), 18 GND_L (power), 19 VINLDO1 (power), 20 LDO1 (power), 21 ENLDO1 (in), 22 ENLDO2 (in), 23 LDO2 (power), 24 VINLDO2 (power), 25 DAP (power)

## LP3907SQX-PFX6W/NOPB
designator U?
Dual High-Current Step-Down DC/DC and Dual Linear Regulator with I2C Compatible Interface, 24-pin LLP, Pb-Free; PartNumber: LP3907SQX-PFX6W/NOPB; Manufacturer: National Semiconductor; PackageTopMarking: NS*UZXYTT*7PFX6W; PowerWise: N; CompType: Switcher; Published: 1-Mar-2010; DatasheetVersion: Dec-2009; PackageVersion: revB, Aug-2003; PackageReference: SQA24A; Publisher: Altium Limited; PackageDescription: LLP, Plastic, Quad, 4 x 4 x 0.8mm Body, 24 Lead, 0.5mm Pitch, No Pullback; RoHS: Y; PinCount: 24; Code_JEDEC: MO-220-WGGD-6; ComponentLink1Description: LP3907 Datasheet; ComponentLink1URL: http://www.national.com/ds/LP/LP3907.pdf; ComponentLink2Description: LP3907 Web Page; ComponentLink2URL: http://www.national.com/pf/LP/LP3907.html; ComponentLink3Description: SQA24A Package Page; ComponentLink3URL: http://www.national.com/packaging/folders/sqa24a.html
footprint SQA24A (QFN, 24-Leads, Body 4x4mm, Pitch 0.5mm, NSC Recommended)
pins: 1 VINLDO12 (power), 2 EN_T (in), 3 nPOR (oc), 4 GND_SW1 (power), 5 SW1 (power), 6 VIN1 (power), 7 ENSW1 (in), 8 FB1 (in), 9 GND_C (power), 10 AVDD (power), 11 FB2 (in), 12 ENSW2 (in), 13 VIN2 (power), 14 SW2 (power), 15 GND_SW2 (power), 16 SDA (io), 17 SCL (in), 18 GND_L (power), 19 VINLDO1 (power), 20 LDO1 (power), 21 ENLDO1 (in), 22 ENLDO2 (in), 23 LDO2 (power), 24 VINLDO2 (power), 25 DAP (power)

## LP3907SQX-PJXIX/NOPB
designator U?
Dual High-Current Step-Down DC/DC and Dual Linear Regulator with I2C Compatible Interface, 24-pin LLP, Pb-Free; PartNumber: LP3907SQX-PJXIX/NOPB; Manufacturer: National Semiconductor; PackageTopMarking: NS*UZXYTT*07PJXIX; PowerWise: N; CompType: Switcher; Published: 1-Mar-2010; DatasheetVersion: Dec-2009; PackageVersion: revB, Aug-2003; PackageReference: SQA24A; Publisher: Altium Limited; PackageDescription: LLP, Plastic, Quad, 4 x 4 x 0.8mm Body, 24 Lead, 0.5mm Pitch, No Pullback; Supplier 1: Digi-Key; Supplier Part Number 1: LP3907SQX-PJXIX-ND; RoHS: Y; PinCount: 24; Code_JEDEC: MO-220-WGGD-6; ComponentLink1Description: LP3907 Datasheet; ComponentLink1URL: http://www.national.com/ds/LP/LP3907.pdf; ComponentLink2Description: LP3907 Web Page; ComponentLink2URL: http://www.national.com/pf/LP/LP3907.html; ComponentLink3Description: SQA24A Package Page; ComponentLink3URL: http://www.national.com/packaging/folders/sqa24a.html
footprint SQA24A (QFN, 24-Leads, Body 4x4mm, Pitch 0.5mm, NSC Recommended)
pins: 1 VINLDO12 (power), 2 EN_T (in), 3 nPOR (oc), 4 GND_SW1 (power), 5 SW1 (power), 6 VIN1 (power), 7 ENSW1 (in), 8 FB1 (in), 9 GND_C (power), 10 AVDD (power), 11 FB2 (in), 12 ENSW2 (in), 13 VIN2 (power), 14 SW2 (power), 15 GND_SW2 (power), 16 SDA (io), 17 SCL (in), 18 GND_L (power), 19 VINLDO1 (power), 20 LDO1 (power), 21 ENLDO1 (in), 22 ENLDO2 (in), 23 LDO2 (power), 24 VINLDO2 (power), 25 DAP (power)

## LP3907SQX-PXPP/NOPB
designator U?
Dual High-Current Step-Down DC/DC and Dual Linear Regulator with I2C Compatible Interface, 24-pin LLP, Pb-Free; PartNumber: LP3907SQX-PXPP/NOPB; Manufacturer: National Semiconductor; PackageTopMarking: NS*UZXYTT*07-PXPP; PowerWise: N; CompType: Switcher; Published: 1-Mar-2010; DatasheetVersion: Dec-2009; PackageVersion: revB, Aug-2003; PackageReference: SQA24A; Publisher: Altium Limited; PackageDescription: LLP, Plastic, Quad, 4 x 4 x 0.8mm Body, 24 Lead, 0.5mm Pitch, No Pullback; Supplier 1: Digi-Key; Supplier Part Number 1: LP3907SQX-PXPP-ND; RoHS: Y; PinCount: 24; Code_JEDEC: MO-220-WGGD-6; ComponentLink1Description: LP3907 Datasheet; ComponentLink1URL: http://www.national.com/ds/LP/LP3907.pdf; ComponentLink2Description: LP3907 Web Page; ComponentLink2URL: http://www.national.com/pf/LP/LP3907.html; ComponentLink3Description: SQA24A Package Page; ComponentLink3URL: http://www.national.com/packaging/folders/sqa24a.html
footprint SQA24A (QFN, 24-Leads, Body 4x4mm, Pitch 0.5mm, NSC Recommended)
pins: 1 VINLDO12 (power), 2 EN_T (in), 3 nPOR (oc), 4 GND_SW1 (power), 5 SW1 (power), 6 VIN1 (power), 7 ENSW1 (in), 8 FB1 (in), 9 GND_C (power), 10 AVDD (power), 11 FB2 (in), 12 ENSW2 (in), 13 VIN2 (power), 14 SW2 (power), 15 GND_SW2 (power), 16 SDA (io), 17 SCL (in), 18 GND_L (power), 19 VINLDO1 (power), 20 LDO1 (power), 21 ENLDO1 (in), 22 ENLDO2 (in), 23 LDO2 (power), 24 VINLDO2 (power), 25 DAP (power)

## LP3907TL-JJ11
designator U?
Dual High-Current Step-Down DC/DC and Dual Linear Regulator with I2C Compatible Interface, 25-pin Micro SMD; PartNumber: LP3907TL-JJ11; Manufacturer: National Semiconductor; PackageTopMarking: XYTT*I V013; PowerWise: N; CompType: Switcher; Published: 4-Dec-2008; DatasheetVersion: Dec-2009; PackageVersion: revD, Dec-2003; PackageReference: TLA25AAA; Publisher: Altium Limited; PackageDescription: Thin Micro SMD, 25 Bump (Large), 0.5mm Pitch; RoHS: Y; PinCount: 25; Code_JEDEC: MO-211-DH; ComponentLink1Description: LP3907 Datasheet; ComponentLink1URL: http://www.national.com/ds/LP/LP3907.pdf; ComponentLink2Description: LP3907 Web Page; ComponentLink2URL: http://www.national.com/pf/LP/LP3907.html; ComponentLink3Description: TLA25AAA Package Page; ComponentLink3URL: http://www.national.com/packaging/folders/tla25aaa.html
footprint TLA25AAA (Micro SMD, 25-Leads, Body 2.49x2.49mm, Pitch 0.5mm, NSC Recommended)
pins: A1 VINLDO1 (power), A2 LDO1 (power), A3 ENLDO2 (in), A4 LDO2 (power), A5 VINLDO2 (power), B1 GND_L (power), B2 SCL (in), B3 ENLDO1 (in), B4 VINLDO12 (power), B5 VINLDO12 (power), C1 GND_SW2 (power), C2 SDA (io), C3 nPOR (oc), C4 EN_T (in), C5 GND_SW1 (power), D1 SW2 (power), D2 ENSW2 (in), D3 GND_C (power), D4 ENSW1 (in), D5 SW1 (power), E1 VIN2 (power), E2 FB2 (in), E3 AVDD (power), E4 FB1 (in), E5 VIN1 (power)

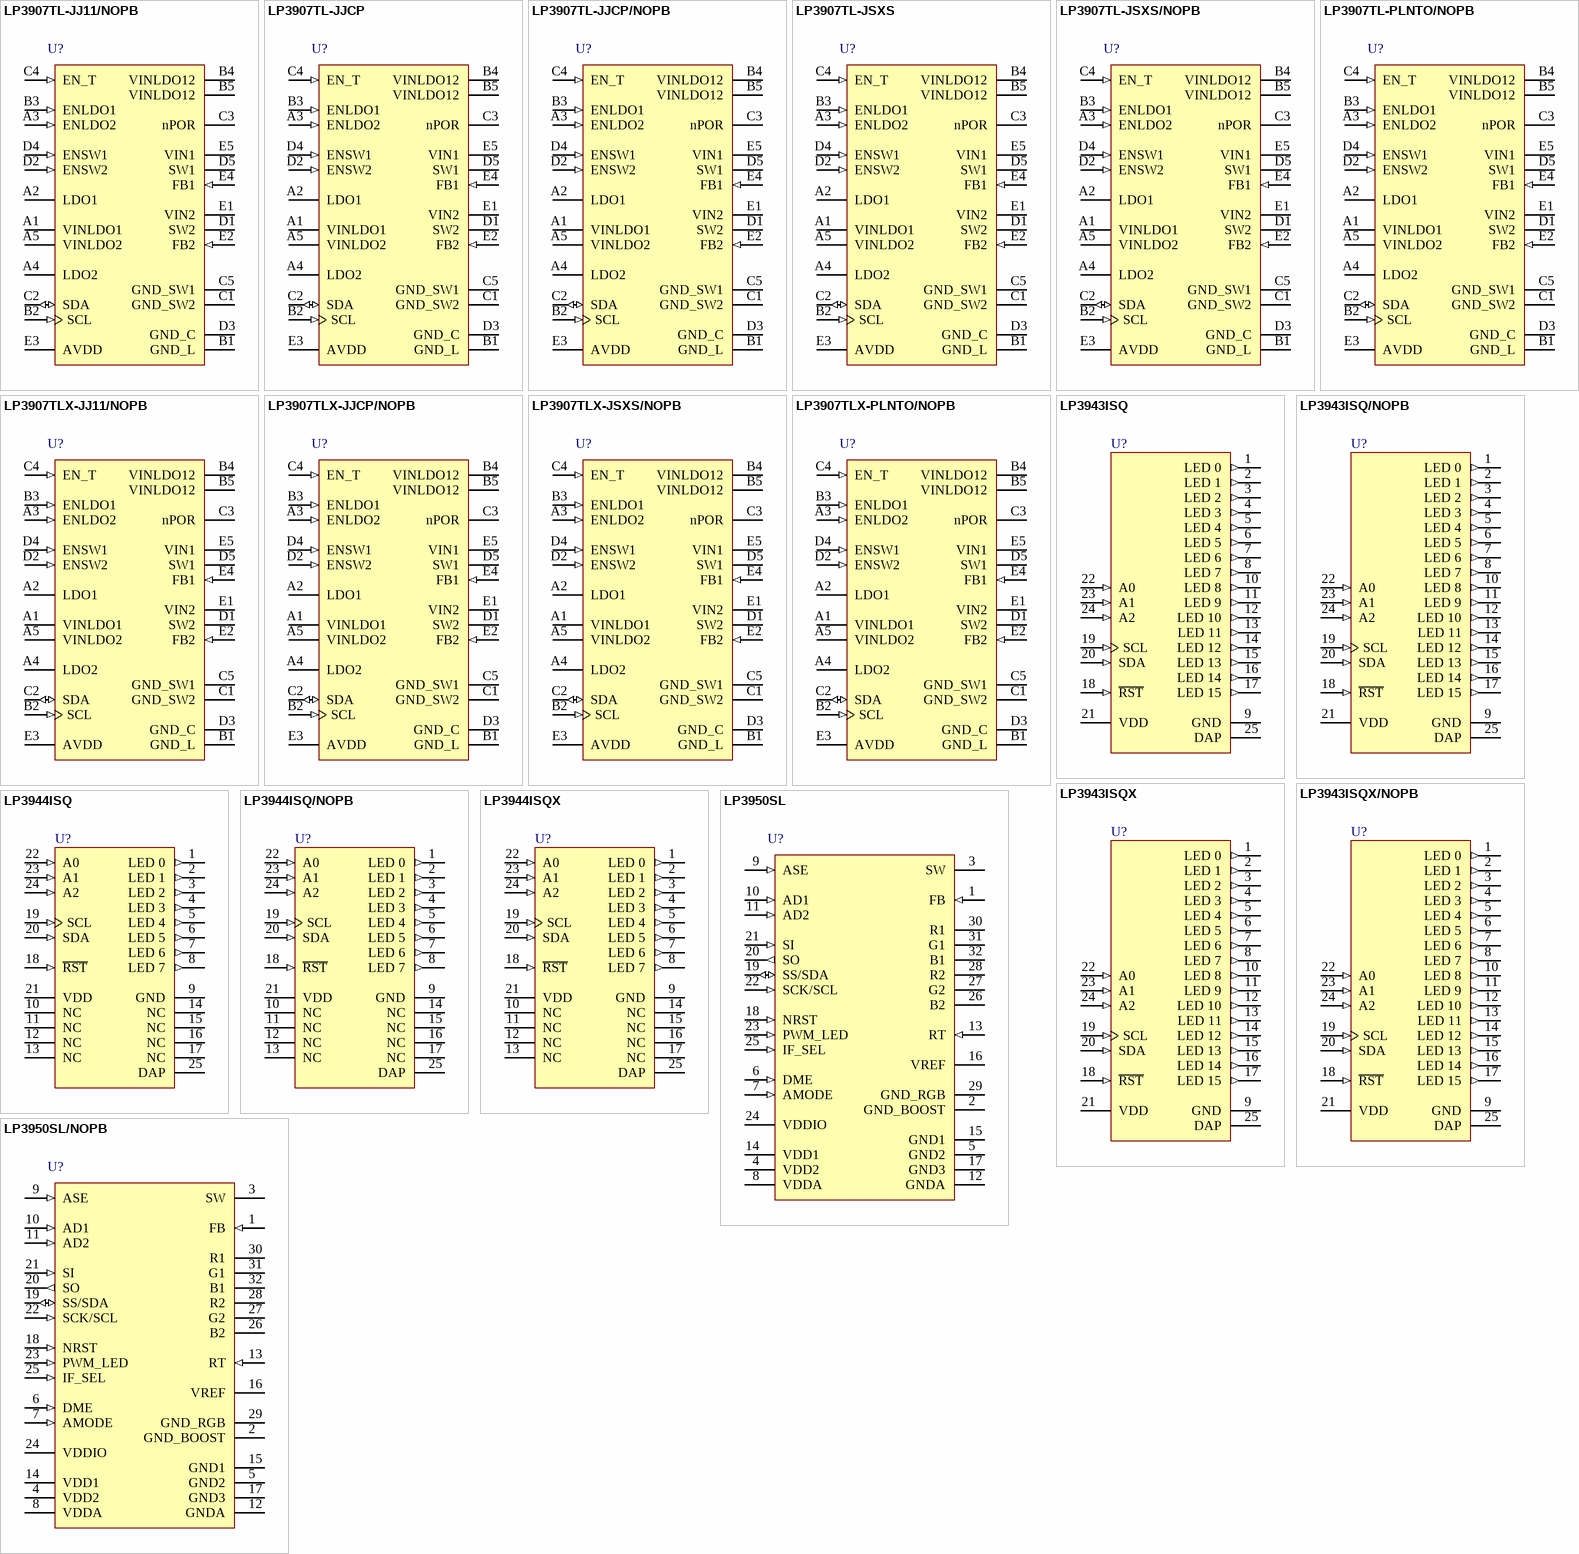
[diagram p60: symbols LP3907TL-JJ11/NOPB to LP3950SL/NOPB]

## LP3907TL-JJ11/NOPB
designator U?
Dual High-Current Step-Down DC/DC and Dual Linear Regulator with I2C Compatible Interface, 25-pin Micro SMD, Pb-Free; PartNumber: LP3907TL-JJ11/NOPB; Manufacturer: National Semiconductor; PackageTopMarking: XYTT*I V013; PowerWise: N; CompType: Switcher; Published: 1-Mar-2010; DatasheetVersion: Dec-2009; PackageVersion: revD, Dec-2003; PackageReference: TLA25AAA; Publisher: Altium Limited; PackageDescription: Thin Micro SMD, 25 Bump (Large), 0.5mm Pitch; Supplier 1: Digi-Key; Supplier Part Number 1: LP3907TL-JJ11TR-ND; Supplier 2: Digi-Key; Supplier Part Number 2: LP3907TL-JJ11CT-ND; Supplier 3: Digi-Key; Supplier Part Number 3: LP3907TL-JJ11DKR-ND; RoHS: Y; PinCount: 25; Code_JEDEC: MO-211-DH; ComponentLink1Description: LP3907 Datasheet; ComponentLink1URL: http://www.national.com/ds/LP/LP3907.pdf; ComponentLink2Description: LP3907 Web Page; ComponentLink2URL: http://www.national.com/pf/LP/LP3907.html; ComponentLink3Description: TLA25AAA Package Page; ComponentLink3URL: http://www.national.com/packaging/folders/tla25aaa.html
footprint TLA25AAA (Micro SMD, 25-Leads, Body 2.49x2.49mm, Pitch 0.5mm, NSC Recommended)
pins: A1 VINLDO1 (power), A2 LDO1 (power), A3 ENLDO2 (in), A4 LDO2 (power), A5 VINLDO2 (power), B1 GND_L (power), B2 SCL (in), B3 ENLDO1 (in), B4 VINLDO12 (power), B5 VINLDO12 (power), C1 GND_SW2 (power), C2 SDA (io), C3 nPOR (oc), C4 EN_T (in), C5 GND_SW1 (power), D1 SW2 (power), D2 ENSW2 (in), D3 GND_C (power), D4 ENSW1 (in), D5 SW1 (power), E1 VIN2 (power), E2 FB2 (in), E3 AVDD (power), E4 FB1 (in), E5 VIN1 (power)

## LP3907TL-JJCP
designator U?
Dual High-Current Step-Down DC/DC and Dual Linear Regulator with I2C Compatible Interface, 25-pin Micro SMD; PartNumber: LP3907TL-JJCP; Manufacturer: National Semiconductor; PackageTopMarking: XYTT*I V016; PowerWise: N; CompType: Switcher; Published: 4-Dec-2008; DatasheetVersion: Dec-2009; PackageVersion: revD, Dec-2003; PackageReference: TLA25AAA; Publisher: Altium Limited; PackageDescription: Thin Micro SMD, 25 Bump (Large), 0.5mm Pitch; RoHS: Y; PinCount: 25; Code_JEDEC: MO-211-DH; ComponentLink1Description: LP3907 Datasheet; ComponentLink1URL: http://www.national.com/ds/LP/LP3907.pdf; ComponentLink2Description: LP3907 Web Page; ComponentLink2URL: http://www.national.com/pf/LP/LP3907.html; ComponentLink3Description: TLA25AAA Package Page; ComponentLink3URL: http://www.national.com/packaging/folders/tla25aaa.html
footprint TLA25AAA (Micro SMD, 25-Leads, Body 2.49x2.49mm, Pitch 0.5mm, NSC Recommended)
pins: A1 VINLDO1 (power), A2 LDO1 (power), A3 ENLDO2 (in), A4 LDO2 (power), A5 VINLDO2 (power), B1 GND_L (power), B2 SCL (in), B3 ENLDO1 (in), B4 VINLDO12 (power), B5 VINLDO12 (power), C1 GND_SW2 (power), C2 SDA (io), C3 nPOR (oc), C4 EN_T (in), C5 GND_SW1 (power), D1 SW2 (power), D2 ENSW2 (in), D3 GND_C (power), D4 ENSW1 (in), D5 SW1 (power), E1 VIN2 (power), E2 FB2 (in), E3 AVDD (power), E4 FB1 (in), E5 VIN1 (power)

## LP3907TL-JJCP/NOPB
designator U?
Dual High-Current Step-Down DC/DC and Dual Linear Regulator with I2C Compatible Interface, 25-pin Micro SMD, Pb-Free; PartNumber: LP3907TL-JJCP/NOPB; Manufacturer: National Semiconductor; PackageTopMarking: XYTT*I V016; PowerWise: N; CompType: Switcher; Published: 1-Mar-2010; DatasheetVersion: Dec-2009; PackageVersion: revD, Dec-2003; PackageReference: TLA25AAA; Publisher: Altium Limited; PackageDescription: Thin Micro SMD, 25 Bump (Large), 0.5mm Pitch; Supplier 1: Digi-Key; Supplier Part Number 1: LP3907TL-JJCPTR-ND; Supplier 2: Digi-Key; Supplier Part Number 2: LP3907TL-JJCPCT-ND; Supplier 3: Digi-Key; Supplier Part Number 3: LP3907TL-JJCPDKR-ND; RoHS: Y; PinCount: 25; Code_JEDEC: MO-211-DH; ComponentLink1Description: LP3907 Datasheet; ComponentLink1URL: http://www.national.com/ds/LP/LP3907.pdf; ComponentLink2Description: LP3907 Web Page; ComponentLink2URL: http://www.national.com/pf/LP/LP3907.html; ComponentLink3Description: TLA25AAA Package Page; ComponentLink3URL: http://www.national.com/packaging/folders/tla25aaa.html
footprint TLA25AAA (Micro SMD, 25-Leads, Body 2.49x2.49mm, Pitch 0.5mm, NSC Recommended)
pins: A1 VINLDO1 (power), A2 LDO1 (power), A3 ENLDO2 (in), A4 LDO2 (power), A5 VINLDO2 (power), B1 GND_L (power), B2 SCL (in), B3 ENLDO1 (in), B4 VINLDO12 (power), B5 VINLDO12 (power), C1 GND_SW2 (power), C2 SDA (io), C3 nPOR (oc), C4 EN_T (in), C5 GND_SW1 (power), D1 SW2 (power), D2 ENSW2 (in), D3 GND_C (power), D4 ENSW1 (in), D5 SW1 (power), E1 VIN2 (power), E2 FB2 (in), E3 AVDD (power), E4 FB1 (in), E5 VIN1 (power)

## LP3907TL-JSXS
designator U?
Dual High-Current Step-Down DC/DC and Dual Linear Regulator with I2C Compatible Interface, 25-pin Micro SMD; PartNumber: LP3907TL-JSXS; Manufacturer: National Semiconductor; PackageTopMarking: XYTT*I V012; PowerWise: N; CompType: Switcher; Published: 4-Dec-2008; DatasheetVersion: Dec-2009; PackageVersion: revD, Dec-2003; PackageReference: TLA25AAA; Publisher: Altium Limited; PackageDescription: Thin Micro SMD, 25 Bump (Large), 0.5mm Pitch; RoHS: Y; PinCount: 25; Code_JEDEC: MO-211-DH; ComponentLink1Description: LP3907 Datasheet; ComponentLink1URL: http://www.national.com/ds/LP/LP3907.pdf; ComponentLink2Description: LP3907 Web Page; ComponentLink2URL: http://www.national.com/pf/LP/LP3907.html; ComponentLink3Description: TLA25AAA Package Page; ComponentLink3URL: http://www.national.com/packaging/folders/tla25aaa.html
footprint TLA25AAA (Micro SMD, 25-Leads, Body 2.49x2.49mm, Pitch 0.5mm, NSC Recommended)
pins: A1 VINLDO1 (power), A2 LDO1 (power), A3 ENLDO2 (in), A4 LDO2 (power), A5 VINLDO2 (power), B1 GND_L (power), B2 SCL (in), B3 ENLDO1 (in), B4 VINLDO12 (power), B5 VINLDO12 (power), C1 GND_SW2 (power), C2 SDA (io), C3 nPOR (oc), C4 EN_T (in), C5 GND_SW1 (power), D1 SW2 (power), D2 ENSW2 (in), D3 GND_C (power), D4 ENSW1 (in), D5 SW1 (power), E1 VIN2 (power), E2 FB2 (in), E3 AVDD (power), E4 FB1 (in), E5 VIN1 (power)

## LP3907TL-JSXS/NOPB
designator U?
Dual High-Current Step-Down DC/DC and Dual Linear Regulator with I2C Compatible Interface, 25-pin Micro SMD, Pb-Free; PartNumber: LP3907TL-JSXS/NOPB; Manufacturer: National Semiconductor; PackageTopMarking: XYTT*I V012; PowerWise: N; CompType: Switcher; Published: 1-Mar-2010; DatasheetVersion: Dec-2009; PackageVersion: revD, Dec-2003; PackageReference: TLA25AAA; Publisher: Altium Limited; PackageDescription: Thin Micro SMD, 25 Bump (Large), 0.5mm Pitch; Supplier 1: Digi-Key; Supplier Part Number 1: LP3907TL-JSXSTR-ND; Supplier 2: Digi-Key; Supplier Part Number 2: LP3907TL-JSXSCT-ND; Supplier 3: Digi-Key; Supplier Part Number 3: LP3907TL-JSXSDKR-ND; RoHS: Y; PinCount: 25; Code_JEDEC: MO-211-DH; ComponentLink1Description: LP3907 Datasheet; ComponentLink1URL: http://www.national.com/ds/LP/LP3907.pdf; ComponentLink2Description: LP3907 Web Page; ComponentLink2URL: http://www.national.com/pf/LP/LP3907.html; ComponentLink3Description: TLA25AAA Package Page; ComponentLink3URL: http://www.national.com/packaging/folders/tla25aaa.html
footprint TLA25AAA (Micro SMD, 25-Leads, Body 2.49x2.49mm, Pitch 0.5mm, NSC Recommended)
pins: A1 VINLDO1 (power), A2 LDO1 (power), A3 ENLDO2 (in), A4 LDO2 (power), A5 VINLDO2 (power), B1 GND_L (power), B2 SCL (in), B3 ENLDO1 (in), B4 VINLDO12 (power), B5 VINLDO12 (power), C1 GND_SW2 (power), C2 SDA (io), C3 nPOR (oc), C4 EN_T (in), C5 GND_SW1 (power), D1 SW2 (power), D2 ENSW2 (in), D3 GND_C (power), D4 ENSW1 (in), D5 SW1 (power), E1 VIN2 (power), E2 FB2 (in), E3 AVDD (power), E4 FB1 (in), E5 VIN1 (power)